# Altium footprint library 0201.PcbLib: 1 footprints
Each footprint in its own frame and in the unit in brackets; x right, y up, seen from the top. Pads: shape width x height; smd on the part's side, far side on the other; paste and mask are expansions set on the pad; w line width, h text height; cw(c..) or ccw(c..) is an arc to the next point about the centre after c.
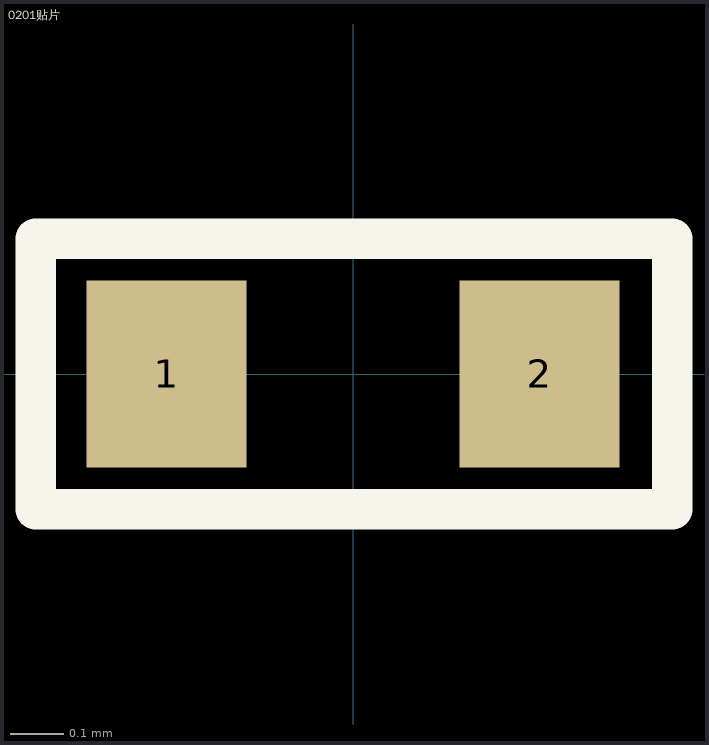
[diagram p0: the footprint, top view; thin cyan lines are the x and y axes]

## 0201贴片 [mm] "0.6mm*0.3mm"
pads (2):
  rect 0.3x0.35 smd: 1(-0.35,0) 2(0.35,0)
Top Overlay:
  lines w0.076: -0.595,-0.254 -0.595,0.254 0.599,0.254 0.599,-0.254 -0.595,-0.254